# Altium integrated library Integrated_Library1.IntLib: 14 symbols
Pins are listed as number, name and electrical type; pins without a type are passive.

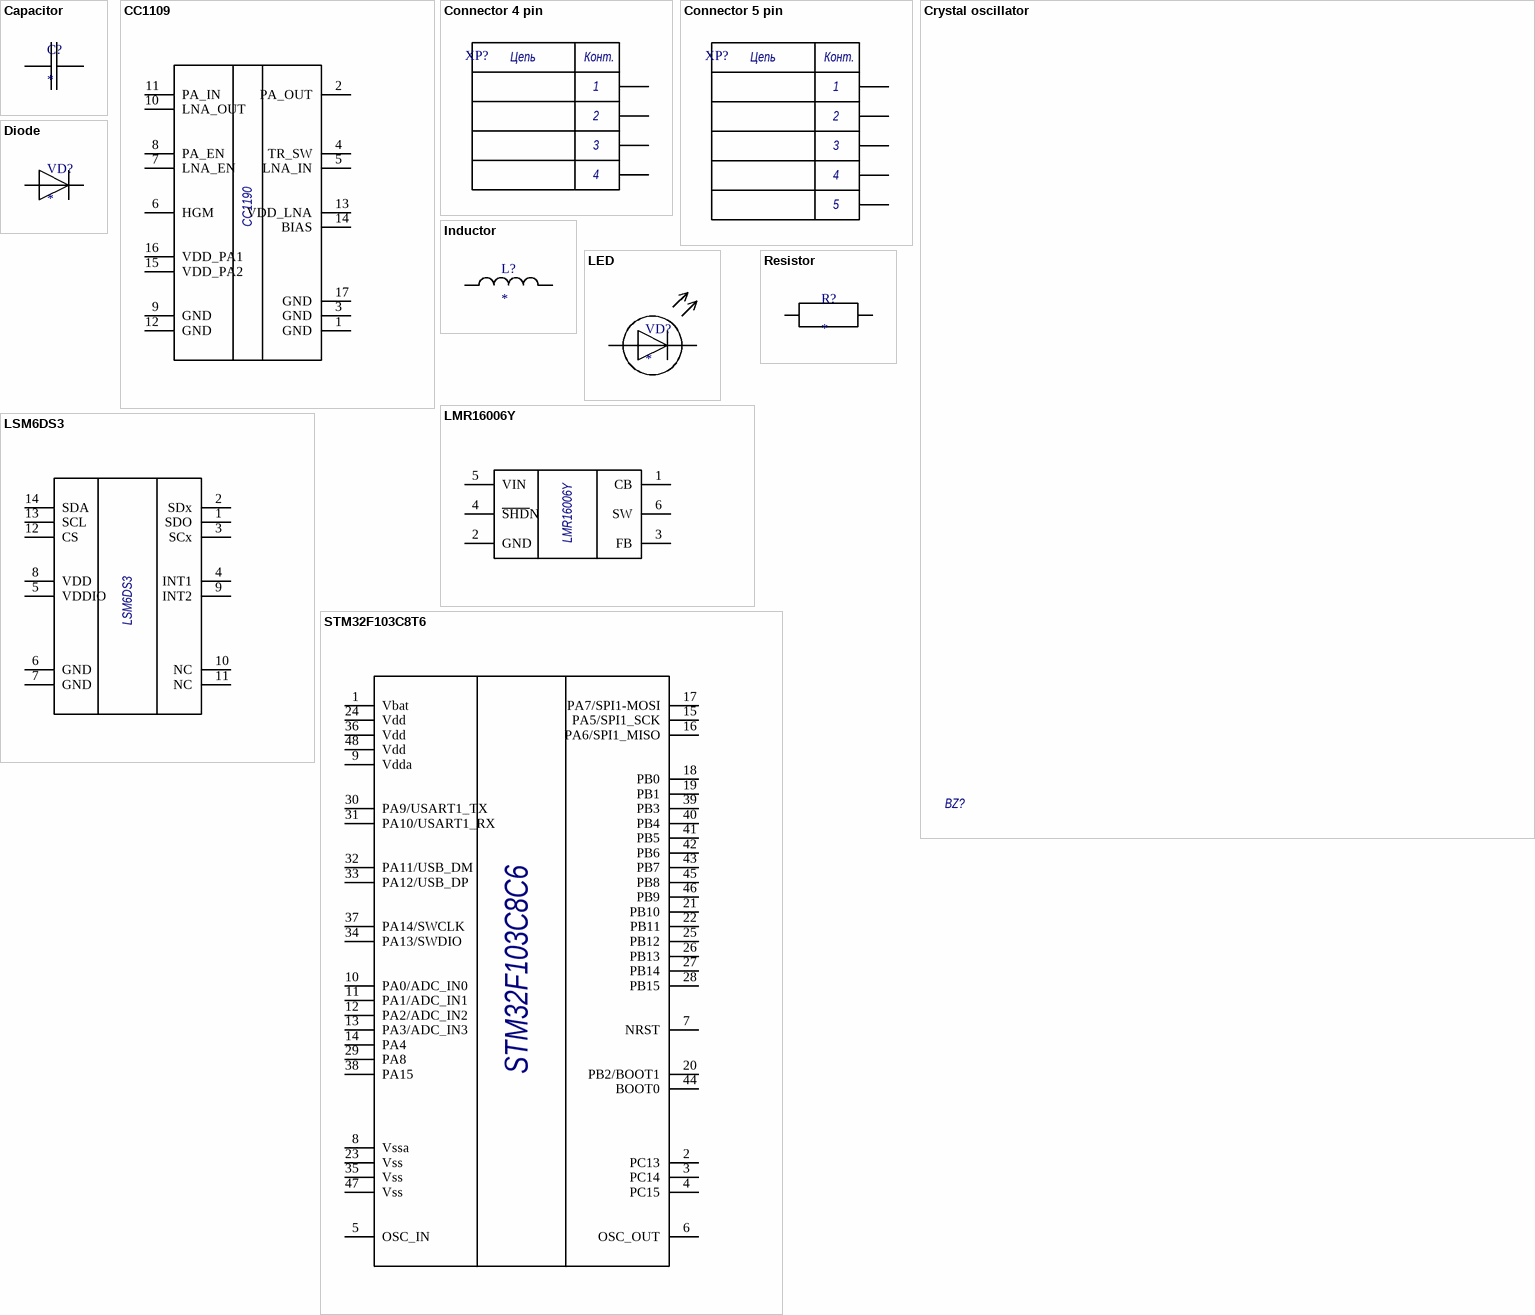
[diagram p0: symbols Capacitor to STM32F103C8T6]

## Capacitor
designator C?
footprint CAP SMD 0402
footprint CAP SMD 0603
pins: 1, 2

## CC1109
designator DA?
850 – 950 MHz RF Front End
footprint S-PVQFN-N16
pins: 1 GND, 2 PA_OUT, 3 GND, 4 TR_SW, 5 LNA_IN, 6 HGM, 7 LNA_EN, 8 PA_EN, 9 GND, 10 LNA_OUT, 11 PA_IN, 12 GND, 13 VDD_LNA, 14 BIAS, 15 VDD_PA2, 16 VDD_PA1, 17 GND
text: CC1190

## Connector 4 pin
designator XP?  (value not drawn)
footprint B4B-PH-K-S
pins: 1, 2, 3, 4
text: Цепь; Конт.

## Connector 5 pin
designator XP?  (value not drawn)
footprint B5B-PH-K-S
pins: 1, 2, 3, 4, 5
text: Цепь; Конт.

## Crystal oscillator
designator BZ?
footprint crystal 3225

## Diode
designator VD?
footprint SOD-323
pins: 1, 2

## Inductor
designator L?
footprint CSAB0420
footprint IND SMD 0402
footprint IND SMD 0603
pins: 1, 2

## LED
designator VD?
footprint LED SMD 0603
pins: 1, 2

## LMR16006Y
designator DD?
Buck Regulator; Input 4 to 40V
footprint SOT-23-6
pins: 1 CB, 2 GND, 3 FB, 4 ~{SHD}N, 5 VIN, 6 SW

## LSM6DS3
designator DD?
Digital accelerometer and a 3D digital gyroscope
footprint LGA-14L
pins: 1 SDO, 2 SDx, 3 SCx, 4 INT1, 5 VDDIO, 6 GND, 7 GND, 8 VDD, 9 INT2, 10 NC, 11 NC, 12 CS, 13 SCL, 14 SDA

## Resistor
designator R?
footprint RES SMD 0603
footprint RES SMD 0402
pins: 1, 2

## STM32F103C8T6
designator DD?, comment Resistor
Микроконтроллер 32-Бит, Cortex-M3, 72МГц, 64КБ Flash, USB, CAN [LQFP-48.]
footprint RES SMD 0603
footprint RES SMD 0402
pins: 1 Vbat, 2 PC13, 3 PC14, 4 PC15, 5 OSC_IN, 6 OSC_OUT, 7 NRST, 8 Vssa, 9 Vdda, 10 PA0/ADC_IN0, 11 PA1/ADC_IN1, 12 PA2/ADC_IN2, 13 PA3/ADC_IN3, 14 PA4, 15 PA5/SPI1_SCK, 16 PA6/SPI1_MISO, 17 PA7/SPI1-MOSI, 18 PB0, 19 PB1, 20 PB2/BOOT1, 21 PB10, 22 PB11, 23 Vss, 24 Vdd, 25 PB12, 26 PB13, 27 PB14, 28 PB15, 29 PA8, 30 PA9/USART1_TX, 31 PA10/USART1_RX, 32 PA11/USB_DM, 33 PA12/USB_DP, 34 PA13/SWDIO, 35 Vss, 36 Vdd, 37 PA14/SWCLK, 38 PA15, 39 PB3, 40 PB4, 41 PB5, 42 PB6, 43 PB7, 44 BOOT0, 45 PB8, 46 PB9, 47 Vss, 48 Vdd
text: STM32F103С8С6

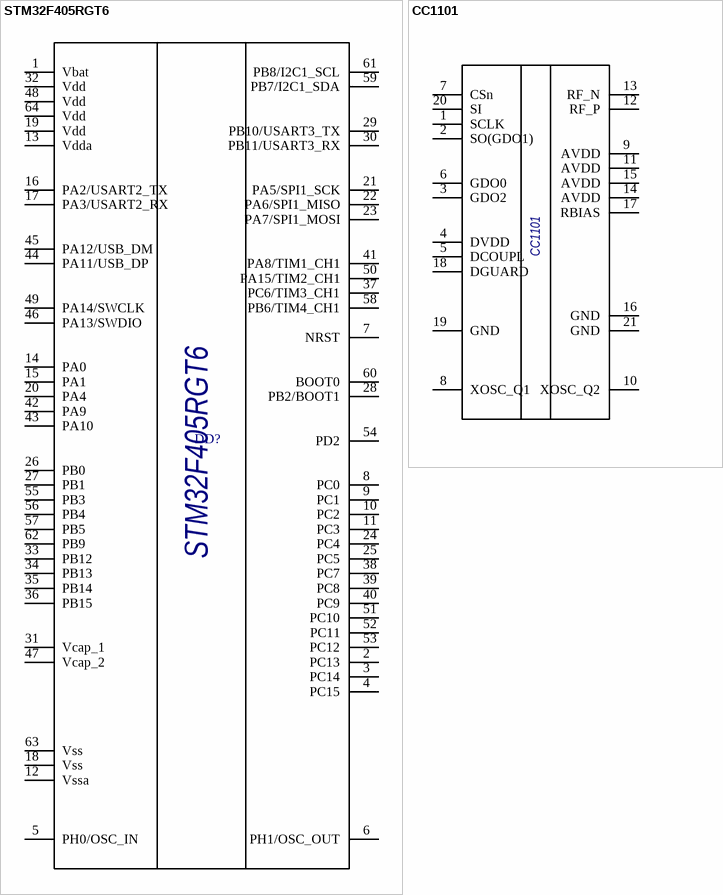
[diagram p1: symbols STM32F405RGT6 to СС1101]

## STM32F405RGT6
designator DD?  (value not drawn)
Микроконтроллер 32-Бит, Cortex-M4 + FPU, 168МГц, 1МБ Flash, USB OTG HS/FS [LQFP-64.]
footprint LQFP64
pins: 1 Vbat, 2 PC13, 3 PC14, 4 PC15, 5 PH0/OSC_IN, 6 PH1/OSC_OUT, 7 NRST, 8 PC0, 9 PC1, 10 PC2, 11 PC3, 12 Vssa, 13 Vdda, 14 PA0, 15 PA1, 16 PA2/USART2_TX, 17 PA3/USART2_RX, 18 Vss, 19 Vdd, 20 PA4, 21 PA5/SPI1_SCK, 22 PA6/SPI1_MISO, 23 PA7/SPI1_MOSI, 24 PC4, 25 PC5, 26 PB0, 27 PB1, 28 PB2/BOOT1, 29 PB10/USART3_TX, 30 PB11/USART3_RX, 31 Vcap_1, 32 Vdd, 33 PB12, 34 PB13, 35 PB14, 36 PB15, 37 PC6/TIM3_CH1, 38 PC7, 39 PC8, 40 PC9, 41 PA8/TIM1_CH1, 42 PA9, 43 PA10, 44 PA11/USB_DP, 45 PA12/USB_DM, 46 PA13/SWDIO, 47 Vcap_2, 48 Vdd, 49 PA14/SWCLK, 50 PA15/TIM2_CH1, 51 PC10, 52 PC11, 53 PC12, 54 PD2, 55 PB3, 56 PB4, 57 PB5, 58 PB6/TIM4_CH1, 59 PB7/I2C1_SDA, 60 BOOT0, 61 PB8/I2C1_SCL, 62 PB9, 63 Vss, 64 Vdd

## СС1101
designator DD?
Low-Power Sub-1 GHz RF Transceiver
footprint SOT-23-3
pins: 1 SCLK, 2 SO(GDO1), 3 GDO2, 4 DVDD, 5 DCOUPL, 6 GDO0, 7 CSn, 8 XOSC_Q1, 9 AVDD, 10 XOSC_Q2, 11 AVDD, 12 RF_P, 13 RF_N, 14 AVDD, 15 AVDD, 16 GND, 17 RBIAS, 18 DGUARD, 19 GND, 20 SI, 21 GND